# Altium footprint library power.PcbLib: 35 footprints (part 3 of 3)
Each footprint in its own frame and in the unit in brackets; x right, y up, seen from the top. Pads: shape width x height; smd on the part's side, far side on the other; paste and mask are expansions set on the pad; w line width, h text height; cw(c..) or ccw(c..) is an arc to the next point about the centre after c.
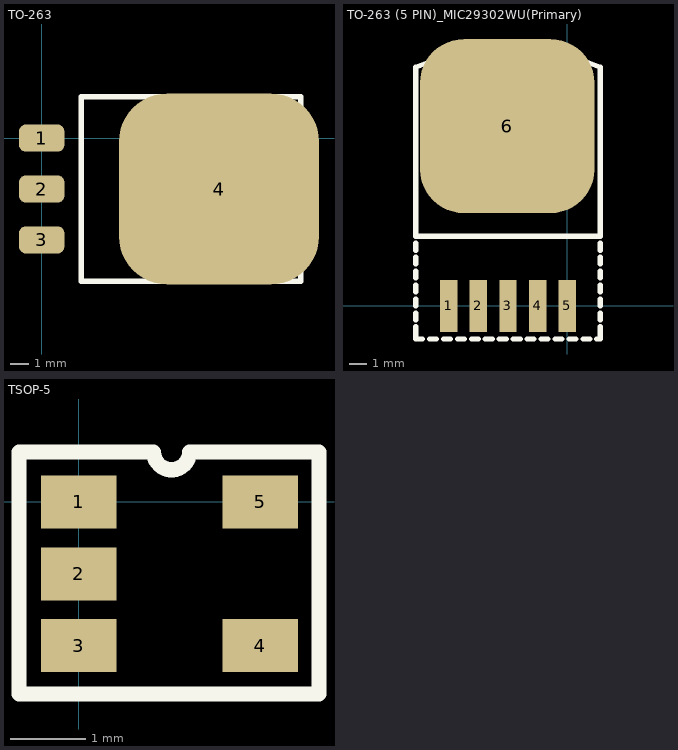
[diagram p2: the footprints below, top view; thin cyan lines are the x and y axes]

## TO-263 [mm]
pads (4):
  rrect50% 2.5x1.5 smd: 1(0,0) 2(0,-2.8) 3(0,-5.6)
  rrect50% 11x10.5 smd: 4(9.751,-2.8)
Top Overlay:
  lines w0.3: 2.171,-7.88 14.236,-7.88 14.236,2.28 2.171,2.28 2.171,-7.88

## TO-263 (5 PIN)_MIC29302WU(Primary) [mm]
pads (6):
  rect 1x3 smd: 1(-6.8,0) 2(-5.1,0) 3(-3.4,0) 4(-1.7,0) 5(0,0)
  rrect50% 10x10 smd: 6(-3.44,10.32)
Top Overlay:
  lines w0.3: -8.7,-1.2 -8.7,-1.9 -8.3,-1.9 ; -8.7,-0.8 -8.7,-0.4 ; -8.7,0 -8.7,0.4 ; -8.7,0.8 -8.7,1.2 ; -8.7,1.6 -8.7,2 ; -8.7,2.4 -8.7,2.8 ; -8.7,3.2 -8.7,3.6 ; -7.9,-1.9 -7.5,-1.9 ; -7.1,-1.9 -6.7,-1.9 ; -6.3,-1.9 -5.9,-1.9 ; -5.5,-1.9 -5.1,-1.9 ; -4.7,-1.9 -4.3,-1.9 ; -3.9,-1.9 -3.5,-1.9 ; -3.1,-1.9 -2.7,-1.9 ; -2.3,-1.9 -1.9,-1.9 ; -1.5,-1.9 -1.1,-1.9 ; -0.7,-1.9 -0.3,-1.9 ; 0.1,-1.9 0.5,-1.9 ; 0.9,-1.9 1.3,-1.9 ; 1.7,-1.9 1.9,-1.9 1.9,-1.2 ; 1.9,-0.8 1.9,-0.4 ; 1.9,0 1.9,0.4 ; 1.9,0.8 1.9,1.2 ; 1.9,1.6 1.9,2 ; 1.9,2.4 1.9,2.8 ; 1.9,3.2 1.9,3.6 ; -8.7,4 1.9,4 1.9,13.7 -0.2,14.5 -6.6,14.5 -8.7,13.7 -8.7,4

## TSOP-5 [mm]
pads (5):
  rect 1x0.7 smd: 1(0,0) 2(0,-0.95) 3(0,-1.9) 4(2.4,-1.9) 5(2.4,0)
Top Overlay:
  lines w0.2: -0.787,-2.54 3.175,-2.54 3.175,0.66 1.466,0.66 cw(c1.228,0.66) 0.991,0.66 -0.787,0.66 -0.787,-2.54
3D body "User Library-5-TSOP.step": height 1.1, standoff 0, extent -0.306,-2.49 2.694,0.61